# Altium footprint library 73412_0110.PcbLib: 1 footprints
Each footprint in its own frame and in the unit in brackets; x right, y up, seen from the top. Pads: shape width x height; smd on the part's side, far side on the other; paste and mask are expansions set on the pad; w line width, h text height; cw(c..) or ccw(c..) is an arc to the next point about the centre after c.
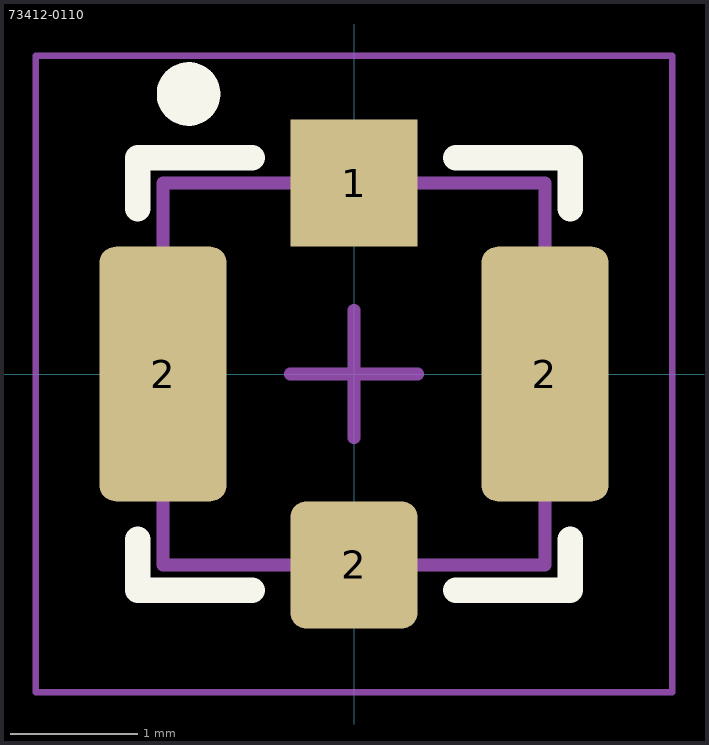
[diagram p0: the footprint, top view; thin cyan lines are the x and y axes]

## 73412-0110 [mm] "MCRF, PCB Vertical Jack Receptacle, SMT, 1,25mm Mounted Height, 50 Ohms"
height 1.36
pads (4):
  rect 1x1 smd: 1(0,1.5)
  rrect25% 1x2 smd: 2(-1.5,0) 2(1.5,0)
  rrect25% 1x1 smd: 2(0,-1.5)
Top Overlay:
  circle w0.25: c-1.3,2.2 r0.125
  lines w0.2: -1.7,-1.3 -1.7,-1.7 -0.8,-1.7 ; -1.7,1.3 -1.7,1.7 -0.8,1.7 ; 0.8,-1.7 1.7,-1.7 1.7,-1.3 ; 0.8,1.7 1.7,1.7 1.7,1.3
Top Comment:
  text ".Comment" at 1.3,2.7 h1.2
Top Designator:
  text ".Designator" at -0.6,2.7 h1.2
Top Component Outline:
  lines w0.1: -1.5,-1.5 -1.5,1.5 1.5,1.5 1.5,-1.5 -1.5,-1.5
Top Courtyard (Mech15):
  lines w0.05: -2.5,-2.5 -2.5,-2.4 -2.5,2.5 2.5,2.5 2.5,-2.5 -2.5,-2.5
  lines w0.1: -0.5,0 0.5,0 ; 0,-0.5 0,0.5
3D body "734120110.stp": height 1.23, standoff -0.07, extent -1.5,-1.54 1.5,1.54